# Altium schematic symbol library WCAP-ATG8.SchLib: 195 symbols (part 2 of 4)
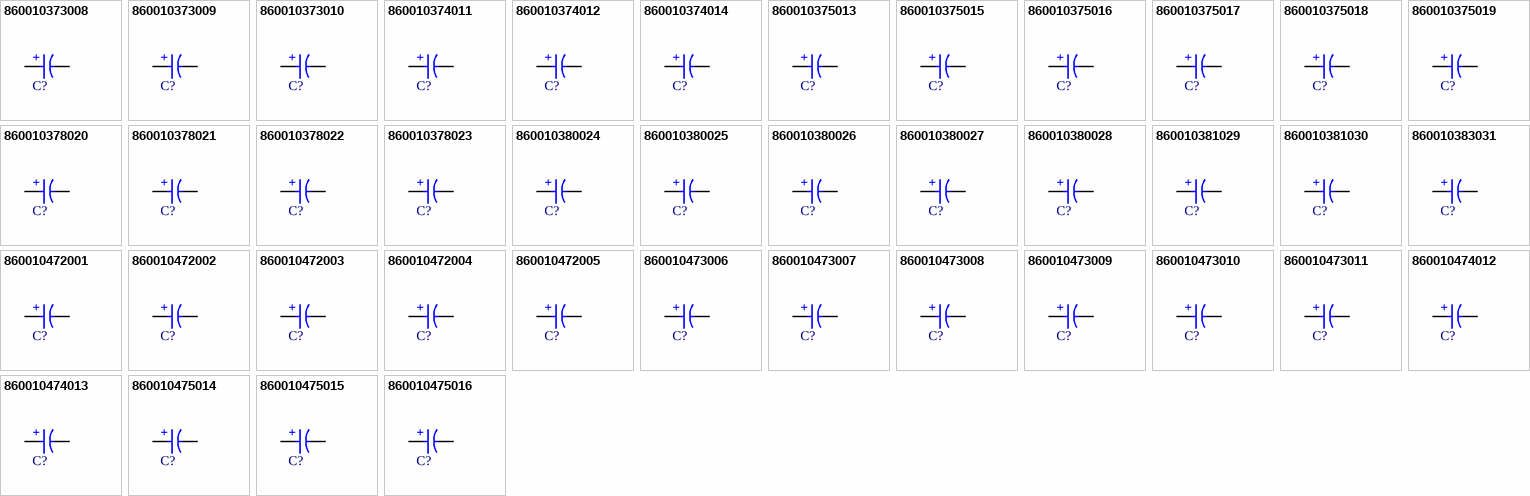
[diagram p5: symbols 860010373008 to 860010475016]

## 860010375019
designator C?, comment 1500uF  (value not drawn)
WCAP-ATG8 Aluminum Electrolytic Capacitor, Radial, THT, D10 x H20mm, 1500uF, 16V; Manufacturer Part Number: 860010375019; Manufacturer: Wurth Elektronik; Capacitance Tolerance: +/-20%; Dissipation Factor: 16%; Endurance: 2000h; Leakage Current: 240uA; Ripple Current: 1100mA; Technical Reference: ATBF200152M016DSPAAB000; Category: Aluminum Electrolytic Capacitors; Match Code: WCAP-ATG8; ComponentLink1Description: Website Link; ComponentLink1URL: https://www.we-online.com/redexpert/article/860010375019?ad; ComponentLink2Description: Datasheet Link; ComponentLink2URL: https://www.we-online.com/redexpert/spec/860010375019?ad; Mount: Through Hole; Operating Temperature Max: 85°C; Operating Temperature Min: -40°C; Packaging: Ammo Pack; Height: 20mm; Diameter: 10mm; Capacitance: 1500uF; Rated Voltage (DC): 16V
footprint WCAP-ATG8_D10H20
simulation model 860010375019_1.5mF
pins: 1 P, 2 N
text: +

## 860010378020
designator C?, comment 1800uF  (value not drawn)
WCAP-ATG8 Aluminum Electrolytic Capacitor, Radial, THT, D13 x H20mm, 1800uF, 16V; Manufacturer Part Number: 860010378020; Manufacturer: Wurth Elektronik; Capacitance Tolerance: +/-20%; Dissipation Factor: 16%; Endurance: 2000h; Leakage Current: 288uA; Ripple Current: 1298mA; Technical Reference: ATBI200182M016DSPACB000; Category: Aluminum Electrolytic Capacitors; Match Code: WCAP-ATG8; ComponentLink1Description: Website Link; ComponentLink1URL: https://www.we-online.com/redexpert/article/860010378020?ad; ComponentLink2Description: Datasheet Link; ComponentLink2URL: https://www.we-online.com/redexpert/spec/860010378020?ad; Mount: Through Hole; Operating Temperature Max: 85°C; Operating Temperature Min: -40°C; Packaging: Ammo Pack; Height: 20mm; Diameter: 13mm; Capacitance: 1800uF; Rated Voltage (DC): 16V
footprint WCAP-ATG8_D13H20
simulation model 860010378020_1.8mF
pins: 1 P, 2 N
text: +

## 860010378021
designator C?, comment 2200uF  (value not drawn)
WCAP-ATG8 Aluminum Electrolytic Capacitor, Radial, THT, D13 x H20mm, 2200uF, 16V; Manufacturer Part Number: 860010378021; Manufacturer: Wurth Elektronik; Capacitance Tolerance: +/-20%; Dissipation Factor: 16%; Endurance: 2000h; Leakage Current: 352uA; Ripple Current: 1485mA; Technical Reference: ATBI200222M016DSPACB000; Category: Aluminum Electrolytic Capacitors; Match Code: WCAP-ATG8; ComponentLink1Description: Website Link; ComponentLink1URL: https://www.we-online.com/redexpert/article/860010378021?ad; ComponentLink2Description: Datasheet Link; ComponentLink2URL: https://www.we-online.com/redexpert/spec/860010378021?ad; Mount: Through Hole; Operating Temperature Max: 85°C; Operating Temperature Min: -40°C; Packaging: Ammo Pack; Height: 20mm; Diameter: 13mm; Capacitance: 2200uF; Rated Voltage (DC): 16V
footprint WCAP-ATG8_D13H20
simulation model 860010378021_2.2mF
pins: 1 P, 2 N
text: +

## 860010378022
designator C?, comment 2700uF  (value not drawn)
WCAP-ATG8 Aluminum Electrolytic Capacitor, Radial, THT, D13 x H20mm, 2700uF, 16V; Manufacturer Part Number: 860010378022; Manufacturer: Wurth Elektronik; Capacitance Tolerance: +/-20%; Dissipation Factor: 16%; Endurance: 2000h; Leakage Current: 432uA; Ripple Current: 1716mA; Technical Reference: ATBI200272M016DSPACB000; Category: Aluminum Electrolytic Capacitors; Match Code: WCAP-ATG8; ComponentLink1Description: Website Link; ComponentLink1URL: https://www.we-online.com/redexpert/article/860010378022?ad; ComponentLink2Description: Datasheet Link; ComponentLink2URL: https://www.we-online.com/redexpert/spec/860010378022?ad; Mount: Through Hole; Operating Temperature Max: 85°C; Operating Temperature Min: -40°C; Packaging: Ammo Pack; Height: 20mm; Diameter: 13mm; Capacitance: 2700uF; Rated Voltage (DC): 16V
footprint WCAP-ATG8_D13H20
simulation model 860010378022_2.7mF
pins: 1 P, 2 N
text: +

## 860010378023
designator C?, comment 3300uF  (value not drawn)
WCAP-ATG8 Aluminum Electrolytic Capacitor, Radial, THT, D13 x H20mm, 3300uF, 16V; Manufacturer Part Number: 860010378023; Manufacturer: Wurth Elektronik; Capacitance Tolerance: +/-20%; Dissipation Factor: 16%; Endurance: 2000h; Leakage Current: 528uA; Ripple Current: 1750mA; Technical Reference: ATBI200332M016DSPACB000; Category: Aluminum Electrolytic Capacitors; Match Code: WCAP-ATG8; ComponentLink1Description: Website Link; ComponentLink1URL: https://www.we-online.com/redexpert/article/860010378023?ad; ComponentLink2Description: Datasheet Link; ComponentLink2URL: https://www.we-online.com/redexpert/spec/860010378023?ad; Mount: Through Hole; Operating Temperature Max: 85°C; Operating Temperature Min: -40°C; Packaging: Ammo Pack; Height: 20mm; Diameter: 13mm; Capacitance: 3300uF; Rated Voltage (DC): 16V
footprint WCAP-ATG8_D13H20
simulation model 860010378023_3.3mF
pins: 1 P, 2 N
text: +

## 860010380024
designator C?, comment 3900uF  (value not drawn)
WCAP-ATG8 Aluminum Electrolytic Capacitor, Radial, THT, D16 x H25mm, 3900uF, 16V; Manufacturer Part Number: 860010380024; Manufacturer: Wurth Elektronik; Capacitance Tolerance: +/-20%; Dissipation Factor: 16%; Endurance: 2000h; Leakage Current: 624uA; Ripple Current: 2002mA; Technical Reference: ATBK250392M016DSPAEB000; Category: Aluminum Electrolytic Capacitors; Match Code: WCAP-ATG8; ComponentLink1Description: Website Link; ComponentLink1URL: https://www.we-online.com/redexpert/article/860010380024?ad; ComponentLink2Description: Datasheet Link; ComponentLink2URL: https://www.we-online.com/redexpert/spec/860010380024?ad; Mount: Through Hole; Operating Temperature Max: 85°C; Operating Temperature Min: -40°C; Packaging: Ammo Pack; Height: 25mm; Diameter: 16mm; Capacitance: 3900uF; Rated Voltage (DC): 16V
footprint WCAP-ATG8_D16H25
simulation model 860010380024_3.9mF
pins: 1 P, 2 N
text: +

## 860010380025
designator C?, comment 4700uF  (value not drawn)
WCAP-ATG8 Aluminum Electrolytic Capacitor, Radial, THT, D16 x H25mm, 4700uF, 16V; Manufacturer Part Number: 860010380025; Manufacturer: Wurth Elektronik; Capacitance Tolerance: +/-20%; Dissipation Factor: 16%; Endurance: 2000h; Leakage Current: 752uA; Ripple Current: 2310mA; Technical Reference: ATBK250472M016DSPAEB000; Category: Aluminum Electrolytic Capacitors; Match Code: WCAP-ATG8; ComponentLink1Description: Website Link; ComponentLink1URL: https://www.we-online.com/redexpert/article/860010380025?ad; ComponentLink2Description: Datasheet Link; ComponentLink2URL: https://www.we-online.com/redexpert/spec/860010380025?ad; Mount: Through Hole; Operating Temperature Max: 85°C; Operating Temperature Min: -40°C; Packaging: Ammo Pack; Height: 25mm; Diameter: 16mm; Capacitance: 4700uF; Rated Voltage (DC): 16V
footprint WCAP-ATG8_D16H25
simulation model 860010380025_4.7mF
pins: 1 P, 2 N
text: +

## 860010380026
designator C?, comment 5600uF  (value not drawn)
WCAP-ATG8 Aluminum Electrolytic Capacitor, Radial, THT, D16 x H31.5mm, 5600uF, 16V; Manufacturer Part Number: 860010380026; Manufacturer: Wurth Elektronik; Capacitance Tolerance: +/-20%; Dissipation Factor: 16%; Endurance: 2000h; Leakage Current: 896uA; Ripple Current: 2453mA; Technical Reference: ATBK315562M016DSPADB000; Category: Aluminum Electrolytic Capacitors; Match Code: WCAP-ATG8; ComponentLink1Description: Website Link; ComponentLink1URL: https://www.we-online.com/redexpert/article/860010380026?ad; ComponentLink2Description: Datasheet Link; ComponentLink2URL: https://www.we-online.com/redexpert/spec/860010380026?ad; Mount: Through Hole; Operating Temperature Max: 85°C; Operating Temperature Min: -40°C; Packaging: Ammo Pack; Height: 31.5mm; Diameter: 16mm; Capacitance: 5600uF; Rated Voltage (DC): 16V
footprint WCAP-ATG8_D16H31.5
simulation model 860010380026_5.6mF
pins: 1 P, 2 N
text: +

## 860010380027
designator C?, comment 6800uF  (value not drawn)
WCAP-ATG8 Aluminum Electrolytic Capacitor, Radial, THT, D16 x H31.5mm, 6800uF, 16V; Manufacturer Part Number: 860010380027; Manufacturer: Wurth Elektronik; Capacitance Tolerance: +/-20%; Dissipation Factor: 16%; Endurance: 2000h; Leakage Current: 1088uA; Ripple Current: 2805mA; Technical Reference: ATBK315682M016DSPADB000; Category: Aluminum Electrolytic Capacitors; Match Code: WCAP-ATG8; ComponentLink1Description: Website Link; ComponentLink1URL: https://www.we-online.com/redexpert/article/860010380027?ad; ComponentLink2Description: Datasheet Link; ComponentLink2URL: https://www.we-online.com/redexpert/spec/860010380027?ad; Mount: Through Hole; Operating Temperature Max: 85°C; Operating Temperature Min: -40°C; Packaging: Ammo Pack; Height: 31.5mm; Diameter: 16mm; Capacitance: 6800uF; Rated Voltage (DC): 16V
footprint WCAP-ATG8_D16H31.5
simulation model 860010380027_6.8mF
pins: 1 P, 2 N
text: +

## 860010380028
designator C?, comment 8200uF  (value not drawn)
WCAP-ATG8 Aluminum Electrolytic Capacitor, Radial, THT, D16 x H35.5mm, 8200uF, 16V; Manufacturer Part Number: 860010380028; Manufacturer: Wurth Elektronik; Capacitance Tolerance: +/-20%; Dissipation Factor: 16%; Endurance: 2000h; Leakage Current: 1312uA; Ripple Current: 2893mA; Technical Reference: ATBK355822M016DSPADB000; Category: Aluminum Electrolytic Capacitors; Match Code: WCAP-ATG8; ComponentLink1Description: Website Link; ComponentLink1URL: https://www.we-online.com/redexpert/article/860010380028?ad; ComponentLink2Description: Datasheet Link; ComponentLink2URL: https://www.we-online.com/redexpert/spec/860010380028?ad; Mount: Through Hole; Operating Temperature Max: 85°C; Operating Temperature Min: -40°C; Packaging: Ammo Pack; Height: 35.5mm; Diameter: 16mm; Capacitance: 8200uF; Rated Voltage (DC): 16V
footprint WCAP-ATG8_D16H35.5
simulation model 860010380028_8.2mF
pins: 1 P, 2 N
text: +

## 860010381029
designator C?, comment 10000uF  (value not drawn)
WCAP-ATG8 Aluminum Electrolytic Capacitor, Radial, THT, D18 x H35.5mm, 10000uF, 16V; Manufacturer Part Number: 860010381029; Manufacturer: Wurth Elektronik; Capacitance Tolerance: +/-20%; Dissipation Factor: 16%; Endurance: 2000h; Leakage Current: 1600uA; Ripple Current: 2970mA; Technical Reference: ATBL355103M016DSPAEB000; Category: Aluminum Electrolytic Capacitors; Match Code: WCAP-ATG8; ComponentLink1Description: Website Link; ComponentLink1URL: https://www.we-online.com/redexpert/article/860010381029?ad; ComponentLink2Description: Datasheet Link; ComponentLink2URL: https://www.we-online.com/redexpert/spec/860010381029?ad; Mount: Through Hole; Operating Temperature Max: 85°C; Operating Temperature Min: -40°C; Packaging: Ammo Pack; Height: 35.5mm; Diameter: 18mm; Capacitance: 10000uF; Rated Voltage (DC): 16V
footprint WCAP-ATG8_D18H35.5
simulation model 860010381029_10mF
pins: 1 P, 2 N
text: +

## 860010381030
designator C?, comment 12000uF  (value not drawn)
WCAP-ATG8 Aluminum Electrolytic Capacitor, Radial, THT, D18 x H35.5mm, 12000uF, 16V; Manufacturer Part Number: 860010381030; Manufacturer: Wurth Elektronik; Capacitance Tolerance: +/-20%; Dissipation Factor: 16%; Endurance: 2000h; Leakage Current: 1920uA; Ripple Current: 3058mA; Technical Reference: ATBL355123M016DSPAEB000; Category: Aluminum Electrolytic Capacitors; Match Code: WCAP-ATG8; ComponentLink1Description: Website Link; ComponentLink1URL: https://www.we-online.com/redexpert/article/860010381030?ad; ComponentLink2Description: Datasheet Link; ComponentLink2URL: https://www.we-online.com/redexpert/spec/860010381030?ad; Mount: Through Hole; Operating Temperature Max: 85°C; Operating Temperature Min: -40°C; Packaging: Ammo Pack; Height: 35.5mm; Diameter: 18mm; Capacitance: 12000uF; Rated Voltage (DC): 16V
footprint WCAP-ATG8_D18H35.5
simulation model 860010381030_12mF
pins: 1 P, 2 N
text: +

## 860010383031
designator C?, comment 15000uF  (value not drawn)
WCAP-ATG8 Aluminum Electrolytic Capacitor, Radial, THT, D22 x H41mm, 15000uF, 16V; Manufacturer Part Number: 860010383031; Manufacturer: Wurth Elektronik; Capacitance Tolerance: +/-20%; Dissipation Factor: 16%; Endurance: 2000h; Leakage Current: 2400uA; Ripple Current: 3905mA; Technical Reference: ATBN410153M016DSPS2B000; Category: Aluminum Electrolytic Capacitors; Match Code: WCAP-ATG8; ComponentLink1Description: Website Link; ComponentLink1URL: https://www.we-online.com/redexpert/article/860010383031?ad; ComponentLink2Description: Datasheet Link; ComponentLink2URL: https://www.we-online.com/redexpert/spec/860010383031?ad; Mount: Through Hole; Operating Temperature Max: 85°C; Operating Temperature Min: -40°C; Packaging: Ammo Pack; Height: 41mm; Diameter: 22mm; Capacitance: 15000uF; Rated Voltage (DC): 16V
footprint WCAP-ATG8_D22H41
simulation model 860010383031_15mF
pins: 1 P, 2 N
text: +

## 860010472001
designator C?, comment 4.7uF  (value not drawn)
WCAP-ATG8 Aluminum Electrolytic Capacitor, Radial, THT, D5 x H11mm, 4.7uF, 25V; Manufacturer Part Number: 860010472001; Manufacturer: Wurth Elektronik; Capacitance Tolerance: +/-20%; Dissipation Factor: 14%; Endurance: 2000h; Leakage Current: 3uA; Ripple Current: 34mA; Technical Reference: ATBC1104R7M025DSPA3B000; Category: Aluminum Electrolytic Capacitors; Match Code: WCAP-ATG8; ComponentLink1Description: Website Link; ComponentLink1URL: https://www.we-online.com/redexpert/article/860010472001?ad; ComponentLink2Description: Datasheet Link; ComponentLink2URL: https://www.we-online.com/redexpert/spec/860010472001?ad; Mount: Through Hole; Operating Temperature Max: 85°C; Operating Temperature Min: -40°C; Packaging: Ammo Pack; Height: 11mm; Diameter: 5mm; Capacitance: 4.7uF; Rated Voltage (DC): 25V
footprint WCAP-ATG8_D5H11
simulation model 860010472001_4.7uF
pins: 1 P, 2 N
text: +

## 860010472002
designator C?, comment 10uF  (value not drawn)
WCAP-ATG8 Aluminum Electrolytic Capacitor, Radial, THT, D5 x H11mm, 10uF, 25V; Manufacturer Part Number: 860010472002; Manufacturer: Wurth Elektronik; Capacitance Tolerance: +/-20%; Dissipation Factor: 14%; Endurance: 2000h; Leakage Current: 3uA; Ripple Current: 50mA; Technical Reference: ATBC110100M025DSPA3B000; Category: Aluminum Electrolytic Capacitors; Match Code: WCAP-ATG8; ComponentLink1Description: Website Link; ComponentLink1URL: https://www.we-online.com/redexpert/article/860010472002?ad; ComponentLink2Description: Datasheet Link; ComponentLink2URL: https://www.we-online.com/redexpert/spec/860010472002?ad; Mount: Through Hole; Operating Temperature Max: 85°C; Operating Temperature Min: -40°C; Packaging: Ammo Pack; Height: 11mm; Diameter: 5mm; Capacitance: 10uF; Rated Voltage (DC): 25V
footprint WCAP-ATG8_D5H11
simulation model 860010472002_10uF
pins: 1 P, 2 N
text: +

## 860010472003
designator C?, comment 22uF  (value not drawn)
WCAP-ATG8 Aluminum Electrolytic Capacitor, Radial, THT, D5 x H11mm, 22uF, 25V; Manufacturer Part Number: 860010472003; Manufacturer: Wurth Elektronik; Capacitance Tolerance: +/-20%; Dissipation Factor: 14%; Endurance: 2000h; Leakage Current: 5.5uA; Ripple Current: 94mA; Technical Reference: ATBC110220M025DSPA3B000; Category: Aluminum Electrolytic Capacitors; Match Code: WCAP-ATG8; ComponentLink1Description: Website Link; ComponentLink1URL: https://www.we-online.com/redexpert/article/860010472003?ad; ComponentLink2Description: Datasheet Link; ComponentLink2URL: https://www.we-online.com/redexpert/spec/860010472003?ad; Mount: Through Hole; Operating Temperature Max: 85°C; Operating Temperature Min: -40°C; Packaging: Ammo Pack; Height: 11mm; Diameter: 5mm; Capacitance: 22uF; Rated Voltage (DC): 25V
footprint WCAP-ATG8_D5H11
simulation model 860010472003_22uF
pins: 1 P, 2 N
text: +

## 860010472004
designator C?, comment 33uF  (value not drawn)
WCAP-ATG8 Aluminum Electrolytic Capacitor, Radial, THT, D5 x H11mm, 33uF, 25V; Manufacturer Part Number: 860010472004; Manufacturer: Wurth Elektronik; Capacitance Tolerance: +/-20%; Dissipation Factor: 14%; Endurance: 2000h; Leakage Current: 8.25uA; Ripple Current: 105mA; Technical Reference: ATBC110330M025DSPA3B000; Category: Aluminum Electrolytic Capacitors; Match Code: WCAP-ATG8; ComponentLink1Description: Website Link; ComponentLink1URL: https://www.we-online.com/redexpert/article/860010472004?ad; ComponentLink2Description: Datasheet Link; ComponentLink2URL: https://www.we-online.com/redexpert/spec/860010472004?ad; Mount: Through Hole; Operating Temperature Max: 85°C; Operating Temperature Min: -40°C; Packaging: Ammo Pack; Height: 11mm; Diameter: 5mm; Capacitance: 33uF; Rated Voltage (DC): 25V
footprint WCAP-ATG8_D5H11
simulation model 860010472004_33uF
pins: 1 P, 2 N
text: +

## 860010472005
designator C?, comment 47uF  (value not drawn)
WCAP-ATG8 Aluminum Electrolytic Capacitor, Radial, THT, D5 x H11mm, 47uF, 25V; Manufacturer Part Number: 860010472005; Manufacturer: Wurth Elektronik; Capacitance Tolerance: +/-20%; Dissipation Factor: 14%; Endurance: 2000h; Leakage Current: 11.75uA; Ripple Current: 132mA; Technical Reference: ATBC110470M025DSPA3B000; Category: Aluminum Electrolytic Capacitors; Match Code: WCAP-ATG8; ComponentLink1Description: Website Link; ComponentLink1URL: https://www.we-online.com/redexpert/article/860010472005?ad; ComponentLink2Description: Datasheet Link; ComponentLink2URL: https://www.we-online.com/redexpert/spec/860010472005?ad; Mount: Through Hole; Operating Temperature Max: 85°C; Operating Temperature Min: -40°C; Packaging: Ammo Pack; Height: 11mm; Diameter: 5mm; Capacitance: 47uF; Rated Voltage (DC): 25V
footprint WCAP-ATG8_D5H11
simulation model 860010472005_47uF
pins: 1 P, 2 N
text: +

## 860010473006
designator C?, comment 68uF  (value not drawn)
WCAP-ATG8 Aluminum Electrolytic Capacitor, Radial, THT, D6.3 x H11mm, 68uF, 25V; Manufacturer Part Number: 860010473006; Manufacturer: Wurth Elektronik; Capacitance Tolerance: +/-20%; Dissipation Factor: 14%; Endurance: 2000h; Leakage Current: 17uA; Ripple Current: 176mA; Technical Reference: ATBD110680M025DSPA4B000; Category: Aluminum Electrolytic Capacitors; Match Code: WCAP-ATG8; ComponentLink1Description: Website Link; ComponentLink1URL: https://www.we-online.com/redexpert/article/860010473006?ad; ComponentLink2Description: Datasheet Link; ComponentLink2URL: https://www.we-online.com/redexpert/spec/860010473006?ad; Mount: Through Hole; Operating Temperature Max: 85°C; Operating Temperature Min: -40°C; Packaging: Ammo Pack; Height: 11mm; Diameter: 6.3mm; Capacitance: 68uF; Rated Voltage (DC): 25V
footprint WCAP-ATG8_D6.3H11
simulation model 860010473006_68uF
pins: 1 P, 2 N
text: +

## 860010473007
designator C?, comment 100uF  (value not drawn)
WCAP-ATG8 Aluminum Electrolytic Capacitor, Radial, THT, D6.3 x H11mm, 100uF, 25V; Manufacturer Part Number: 860010473007; Manufacturer: Wurth Elektronik; Capacitance Tolerance: +/-20%; Dissipation Factor: 14%; Endurance: 2000h; Leakage Current: 25uA; Ripple Current: 209mA; Technical Reference: ATBD110101M025DSPA4B000; Category: Aluminum Electrolytic Capacitors; Match Code: WCAP-ATG8; ComponentLink1Description: Website Link; ComponentLink1URL: https://www.we-online.com/redexpert/article/860010473007?ad; ComponentLink2Description: Datasheet Link; ComponentLink2URL: https://www.we-online.com/redexpert/spec/860010473007?ad; Mount: Through Hole; Operating Temperature Max: 85°C; Operating Temperature Min: -40°C; Packaging: Ammo Pack; Height: 11mm; Diameter: 6.3mm; Capacitance: 100uF; Rated Voltage (DC): 25V
footprint WCAP-ATG8_D6.3H11
simulation model 860010473007_100uF
pins: 1 P, 2 N
text: +

## 860010473008
designator C?, comment 120uF  (value not drawn)
WCAP-ATG8 Aluminum Electrolytic Capacitor, Radial, THT, D6.3 x H11mm, 120uF, 25V; Manufacturer Part Number: 860010473008; Manufacturer: Wurth Elektronik; Capacitance Tolerance: +/-20%; Dissipation Factor: 14%; Endurance: 2000h; Leakage Current: 30uA; Ripple Current: 253mA; Technical Reference: ATBD110121M025DSPA4B000; Category: Aluminum Electrolytic Capacitors; Match Code: WCAP-ATG8; ComponentLink1Description: Website Link; ComponentLink1URL: https://www.we-online.com/redexpert/article/860010473008?ad; ComponentLink2Description: Datasheet Link; ComponentLink2URL: https://www.we-online.com/redexpert/spec/860010473008?ad; Mount: Through Hole; Operating Temperature Max: 85°C; Operating Temperature Min: -40°C; Packaging: Ammo Pack; Height: 11mm; Diameter: 6.3mm; Capacitance: 120uF; Rated Voltage (DC): 25V
footprint WCAP-ATG8_D6.3H11
simulation model 860010473008_120uF
pins: 1 P, 2 N
text: +

## 860010473009
designator C?, comment 150uF  (value not drawn)
WCAP-ATG8 Aluminum Electrolytic Capacitor, Radial, THT, D6.3 x H11mm, 150uF, 25V; Manufacturer Part Number: 860010473009; Manufacturer: Wurth Elektronik; Capacitance Tolerance: +/-20%; Dissipation Factor: 14%; Endurance: 2000h; Leakage Current: 37.5uA; Ripple Current: 275mA; Technical Reference: ATBD110151M025DSPA4B000; Category: Aluminum Electrolytic Capacitors; Match Code: WCAP-ATG8; ComponentLink1Description: Website Link; ComponentLink1URL: https://www.we-online.com/redexpert/article/860010473009?ad; ComponentLink2Description: Datasheet Link; ComponentLink2URL: https://www.we-online.com/redexpert/spec/860010473009?ad; Mount: Through Hole; Operating Temperature Max: 85°C; Operating Temperature Min: -40°C; Packaging: Ammo Pack; Height: 11mm; Diameter: 6.3mm; Capacitance: 150uF; Rated Voltage (DC): 25V
footprint WCAP-ATG8_D6.3H11
simulation model 860010473009_150uF
pins: 1 P, 2 N
text: +

## 860010473010
designator C?, comment 180uF  (value not drawn)
WCAP-ATG8 Aluminum Electrolytic Capacitor, Radial, THT, D6.3 x H11mm, 180uF, 25V; Manufacturer Part Number: 860010473010; Manufacturer: Wurth Elektronik; Capacitance Tolerance: +/-20%; Dissipation Factor: 14%; Endurance: 2000h; Leakage Current: 45uA; Ripple Current: 280mA; Technical Reference: ATBD110181M025DSPA4B000; Category: Aluminum Electrolytic Capacitors; Match Code: WCAP-ATG8; ComponentLink1Description: Website Link; ComponentLink1URL: https://www.we-online.com/redexpert/article/860010473010?ad; ComponentLink2Description: Datasheet Link; ComponentLink2URL: https://www.we-online.com/redexpert/spec/860010473010?ad; Mount: Through Hole; Operating Temperature Max: 85°C; Operating Temperature Min: -40°C; Packaging: Ammo Pack; Height: 11mm; Diameter: 6.3mm; Capacitance: 180uF; Rated Voltage (DC): 25V
footprint WCAP-ATG8_D6.3H11
simulation model 860010473010_180uF
pins: 1 P, 2 N
text: +

## 860010473011
designator C?, comment 220uF  (value not drawn)
WCAP-ATG8 Aluminum Electrolytic Capacitor, Radial, THT, D6.3 x H11mm, 220uF, 25V; Manufacturer Part Number: 860010473011; Manufacturer: Wurth Elektronik; Capacitance Tolerance: +/-20%; Dissipation Factor: 14%; Endurance: 2000h; Leakage Current: 55uA; Ripple Current: 310mA; Technical Reference: ATBD110221M025DSPA4B000; Category: Aluminum Electrolytic Capacitors; Match Code: WCAP-ATG8; ComponentLink1Description: Website Link; ComponentLink1URL: https://www.we-online.com/redexpert/article/860010473011?ad; ComponentLink2Description: Datasheet Link; ComponentLink2URL: https://www.we-online.com/redexpert/spec/860010473011?ad; Mount: Through Hole; Operating Temperature Max: 85°C; Operating Temperature Min: -40°C; Packaging: Ammo Pack; Height: 11mm; Diameter: 6.3mm; Capacitance: 220uF; Rated Voltage (DC): 25V
footprint WCAP-ATG8_D6.3H11
simulation model 860010473011_220uF
pins: 1 P, 2 N
text: +

## 860010474012
designator C?, comment 330uF  (value not drawn)
WCAP-ATG8 Aluminum Electrolytic Capacitor, Radial, THT, D8 x H11.5mm, 330uF, 25V; Manufacturer Part Number: 860010474012; Manufacturer: Wurth Elektronik; Capacitance Tolerance: +/-20%; Dissipation Factor: 14%; Endurance: 2000h; Leakage Current: 82.5uA; Ripple Current: 451mA; Technical Reference: ATBE115331M025DSPA7B000; Category: Aluminum Electrolytic Capacitors; Match Code: WCAP-ATG8; ComponentLink1Description: Website Link; ComponentLink1URL: https://www.we-online.com/redexpert/article/860010474012?ad; ComponentLink2Description: Datasheet Link; ComponentLink2URL: https://www.we-online.com/redexpert/spec/860010474012?ad; Mount: Through Hole; Operating Temperature Max: 85°C; Operating Temperature Min: -40°C; Packaging: Ammo Pack; Height: 11.5mm; Diameter: 8mm; Capacitance: 330uF; Rated Voltage (DC): 25V
footprint WCAP-ATG8_D8H11.5
simulation model 860010474012_330uF
pins: 1 P, 2 N
text: +

## 860010474013
designator C?, comment 470uF  (value not drawn)
WCAP-ATG8 Aluminum Electrolytic Capacitor, Radial, THT, D8 x H11.5mm, 470uF, 25V; Manufacturer Part Number: 860010474013; Manufacturer: Wurth Elektronik; Capacitance Tolerance: +/-20%; Dissipation Factor: 14%; Endurance: 2000h; Leakage Current: 117.5uA; Ripple Current: 561mA; Technical Reference: ATBE115471M025DSPA7B000; Category: Aluminum Electrolytic Capacitors; Match Code: WCAP-ATG8; ComponentLink1Description: Website Link; ComponentLink1URL: https://www.we-online.com/redexpert/article/860010474013?ad; ComponentLink2Description: Datasheet Link; ComponentLink2URL: https://www.we-online.com/redexpert/spec/860010474013?ad; Mount: Through Hole; Operating Temperature Max: 85°C; Operating Temperature Min: -40°C; Packaging: Ammo Pack; Height: 11.5mm; Diameter: 8mm; Capacitance: 470uF; Rated Voltage (DC): 25V
footprint WCAP-ATG8_D8H11.5
simulation model 860010474013_470uF
pins: 1 P, 2 N
text: +

## 860010475014
designator C?, comment 560uF  (value not drawn)
WCAP-ATG8 Aluminum Electrolytic Capacitor, Radial, THT, D10 x H16mm, 560uF, 25V; Manufacturer Part Number: 860010475014; Manufacturer: Wurth Elektronik; Capacitance Tolerance: +/-20%; Dissipation Factor: 14%; Endurance: 2000h; Leakage Current: 140uA; Ripple Current: 693mA; Technical Reference: ATBF160561M025DSPAAB000; Category: Aluminum Electrolytic Capacitors; Match Code: WCAP-ATG8; ComponentLink1Description: Website Link; ComponentLink1URL: https://www.we-online.com/redexpert/article/860010475014?ad; ComponentLink2Description: Datasheet Link; ComponentLink2URL: https://www.we-online.com/redexpert/spec/860010475014?ad; Mount: Through Hole; Operating Temperature Max: 85°C; Operating Temperature Min: -40°C; Packaging: Ammo Pack; Height: 16mm; Diameter: 10mm; Capacitance: 560uF; Rated Voltage (DC): 25V
footprint WCAP-ATG8_D10H16
simulation model 860010475014_560uF
pins: 1 P, 2 N
text: +

## 860010475015
designator C?, comment 680uF  (value not drawn)
WCAP-ATG8 Aluminum Electrolytic Capacitor, Radial, THT, D10 x H16mm, 680uF, 25V; Manufacturer Part Number: 860010475015; Manufacturer: Wurth Elektronik; Capacitance Tolerance: +/-20%; Dissipation Factor: 14%; Endurance: 2000h; Leakage Current: 170uA; Ripple Current: 792mA; Technical Reference: ATBF160681M025DSPAAB000; Category: Aluminum Electrolytic Capacitors; Match Code: WCAP-ATG8; ComponentLink1Description: Website Link; ComponentLink1URL: https://www.we-online.com/redexpert/article/860010475015?ad; ComponentLink2Description: Datasheet Link; ComponentLink2URL: https://www.we-online.com/redexpert/spec/860010475015?ad; Mount: Through Hole; Operating Temperature Max: 85°C; Operating Temperature Min: -40°C; Packaging: Ammo Pack; Height: 16mm; Diameter: 10mm; Capacitance: 680uF; Rated Voltage (DC): 25V
footprint WCAP-ATG8_D10H16
simulation model 860010475015_680uF
pins: 1 P, 2 N
text: +

## 860010475016
designator C?, comment 820uF  (value not drawn)
WCAP-ATG8 Aluminum Electrolytic Capacitor, Radial, THT, D10 x H20mm, 820uF, 25V; Manufacturer Part Number: 860010475016; Manufacturer: Wurth Elektronik; Capacitance Tolerance: +/-20%; Dissipation Factor: 14%; Endurance: 2000h; Leakage Current: 205uA; Ripple Current: 891mA; Technical Reference: ATBF200821M025DSPAAB000; Category: Aluminum Electrolytic Capacitors; Match Code: WCAP-ATG8; ComponentLink1Description: Website Link; ComponentLink1URL: https://www.we-online.com/redexpert/article/860010475016?ad; ComponentLink2Description: Datasheet Link; ComponentLink2URL: https://www.we-online.com/redexpert/spec/860010475016?ad; Mount: Through Hole; Operating Temperature Max: 85°C; Operating Temperature Min: -40°C; Packaging: Ammo Pack; Height: 20mm; Diameter: 10mm; Capacitance: 820uF; Rated Voltage (DC): 25V
footprint WCAP-ATG8_D10H20
simulation model 860010475016_820uF
pins: 1 P, 2 N
text: +

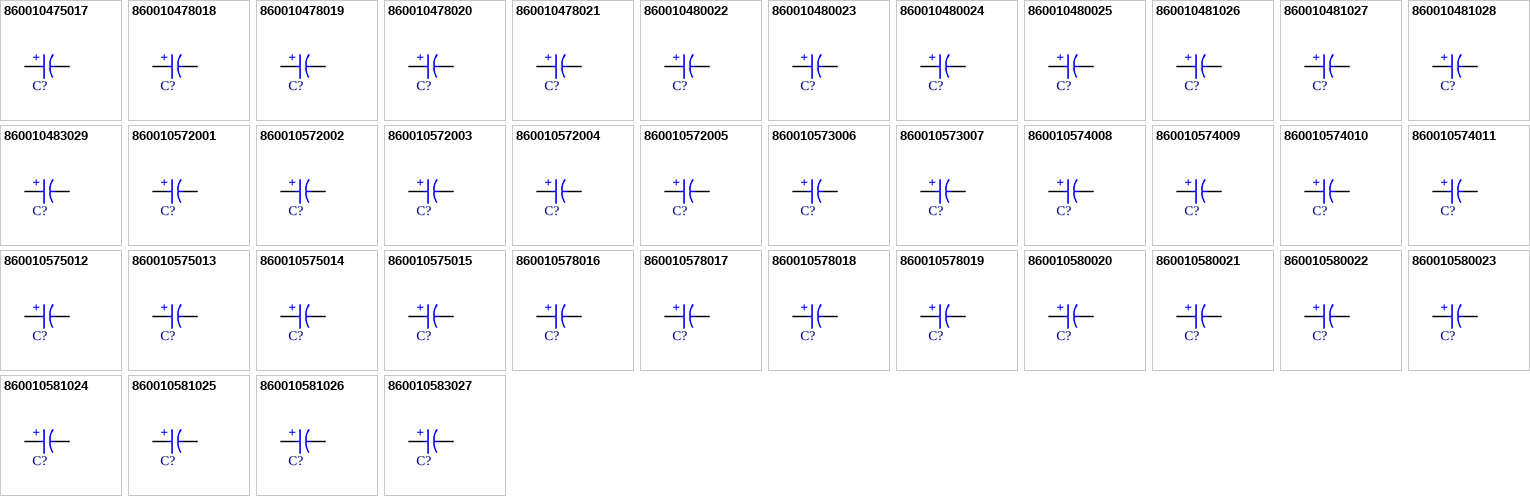
[diagram p2: symbols 860010475017 to 860010583027]

## 860010475017
designator C?, comment 1000uF  (value not drawn)
WCAP-ATG8 Aluminum Electrolytic Capacitor, Radial, THT, D10 x H20mm, 1000uF, 25V; Manufacturer Part Number: 860010475017; Manufacturer: Wurth Elektronik; Capacitance Tolerance: +/-20%; Dissipation Factor: 14%; Endurance: 2000h; Leakage Current: 250uA; Ripple Current: 1050mA; Technical Reference: ATBF200102M025DSPAAB000; Category: Aluminum Electrolytic Capacitors; Match Code: WCAP-ATG8; ComponentLink1Description: Website Link; ComponentLink1URL: https://www.we-online.com/redexpert/article/860010475017?ad; ComponentLink2Description: Datasheet Link; ComponentLink2URL: https://www.we-online.com/redexpert/spec/860010475017?ad; Mount: Through Hole; Operating Temperature Max: 85°C; Operating Temperature Min: -40°C; Packaging: Ammo Pack; Height: 20mm; Diameter: 10mm; Capacitance: 1000uF; Rated Voltage (DC): 25V
footprint WCAP-ATG8_D10H20
simulation model 860010475017_1mF
pins: 1 P, 2 N
text: +

## 860010478018
designator C?, comment 1200uF  (value not drawn)
WCAP-ATG8 Aluminum Electrolytic Capacitor, Radial, THT, D13 x H20mm, 1200uF, 25V; Manufacturer Part Number: 860010478018; Manufacturer: Wurth Elektronik; Capacitance Tolerance: +/-20%; Dissipation Factor: 14%; Endurance: 2000h; Leakage Current: 300uA; Ripple Current: 1155mA; Technical Reference: ATBI200122M025DSPACB000; Category: Aluminum Electrolytic Capacitors; Match Code: WCAP-ATG8; ComponentLink1Description: Website Link; ComponentLink1URL: https://www.we-online.com/redexpert/article/860010478018?ad; ComponentLink2Description: Datasheet Link; ComponentLink2URL: https://www.we-online.com/redexpert/spec/860010478018?ad; Mount: Through Hole; Operating Temperature Max: 85°C; Operating Temperature Min: -40°C; Packaging: Ammo Pack; Height: 20mm; Diameter: 13mm; Capacitance: 1200uF; Rated Voltage (DC): 25V
footprint WCAP-ATG8_D13H20
simulation model 860010478018_1.2mF
pins: 1 P, 2 N
text: +

## 860010478019
designator C?, comment 1500uF  (value not drawn)
WCAP-ATG8 Aluminum Electrolytic Capacitor, Radial, THT, D13 x H20mm, 1500uF, 25V; Manufacturer Part Number: 860010478019; Manufacturer: Wurth Elektronik; Capacitance Tolerance: +/-20%; Dissipation Factor: 14%; Endurance: 2000h; Leakage Current: 375uA; Ripple Current: 1353mA; Technical Reference: ATBI200152M025DSPACB000; Category: Aluminum Electrolytic Capacitors; Match Code: WCAP-ATG8; ComponentLink1Description: Website Link; ComponentLink1URL: https://www.we-online.com/redexpert/article/860010478019?ad; ComponentLink2Description: Datasheet Link; ComponentLink2URL: https://www.we-online.com/redexpert/spec/860010478019?ad; Mount: Through Hole; Operating Temperature Max: 85°C; Operating Temperature Min: -40°C; Packaging: Ammo Pack; Height: 20mm; Diameter: 13mm; Capacitance: 1500uF; Rated Voltage (DC): 25V
footprint WCAP-ATG8_D13H20
simulation model 860010478019_1.5mF
pins: 1 P, 2 N
text: +

## 860010478020
designator C?, comment 1800uF  (value not drawn)
WCAP-ATG8 Aluminum Electrolytic Capacitor, Radial, THT, D13 x H20mm, 1800uF, 25V; Manufacturer Part Number: 860010478020; Manufacturer: Wurth Elektronik; Capacitance Tolerance: +/-20%; Dissipation Factor: 14%; Endurance: 2000h; Leakage Current: 450uA; Ripple Current: 1496mA; Technical Reference: ATBI200182M025DSPACB000; Category: Aluminum Electrolytic Capacitors; Match Code: WCAP-ATG8; ComponentLink1Description: Website Link; ComponentLink1URL: https://www.we-online.com/redexpert/article/860010478020?ad; ComponentLink2Description: Datasheet Link; ComponentLink2URL: https://www.we-online.com/redexpert/spec/860010478020?ad; Mount: Through Hole; Operating Temperature Max: 85°C; Operating Temperature Min: -40°C; Packaging: Ammo Pack; Height: 20mm; Diameter: 13mm; Capacitance: 1800uF; Rated Voltage (DC): 25V
footprint WCAP-ATG8_D13H20
simulation model 860010478020_1.8mF
pins: 1 P, 2 N
text: +

## 860010478021
designator C?, comment 2200uF  (value not drawn)
WCAP-ATG8 Aluminum Electrolytic Capacitor, Radial, THT, D13 x H25mm, 2200uF, 25V; Manufacturer Part Number: 860010478021; Manufacturer: Wurth Elektronik; Capacitance Tolerance: +/-20%; Dissipation Factor: 14%; Endurance: 2000h; Leakage Current: 550uA; Ripple Current: 1705mA; Technical Reference: ATBI250222M025DSPACB000; Category: Aluminum Electrolytic Capacitors; Match Code: WCAP-ATG8; ComponentLink1Description: Website Link; ComponentLink1URL: https://www.we-online.com/redexpert/article/860010478021?ad; ComponentLink2Description: Datasheet Link; ComponentLink2URL: https://www.we-online.com/redexpert/spec/860010478021?ad; Mount: Through Hole; Operating Temperature Max: 85°C; Operating Temperature Min: -40°C; Packaging: Ammo Pack; Height: 25mm; Diameter: 13mm; Capacitance: 2200uF; Rated Voltage (DC): 25V
footprint WCAP-ATG8_D13H25
simulation model 860010478021_2.2mF
pins: 1 P, 2 N
text: +

## 860010480022
designator C?, comment 2700uF  (value not drawn)
WCAP-ATG8 Aluminum Electrolytic Capacitor, Radial, THT, D16 x H25mm, 2700uF, 25V; Manufacturer Part Number: 860010480022; Manufacturer: Wurth Elektronik; Capacitance Tolerance: +/-20%; Dissipation Factor: 14%; Endurance: 2000h; Leakage Current: 675uA; Ripple Current: 1804mA; Technical Reference: ATBK250272M025DSPAEB000; Category: Aluminum Electrolytic Capacitors; Match Code: WCAP-ATG8; ComponentLink1Description: Website Link; ComponentLink1URL: https://www.we-online.com/redexpert/article/860010480022?ad; ComponentLink2Description: Datasheet Link; ComponentLink2URL: https://www.we-online.com/redexpert/spec/860010480022?ad; Mount: Through Hole; Operating Temperature Max: 85°C; Operating Temperature Min: -40°C; Packaging: Ammo Pack; Height: 25mm; Diameter: 16mm; Capacitance: 2700uF; Rated Voltage (DC): 25V
footprint WCAP-ATG8_D16H25
simulation model 860010480022_2.7mF
pins: 1 P, 2 N
text: +

## 860010480023
designator C?, comment 3300uF  (value not drawn)
WCAP-ATG8 Aluminum Electrolytic Capacitor, Radial, THT, D16 x H25mm, 3300uF, 25V; Manufacturer Part Number: 860010480023; Manufacturer: Wurth Elektronik; Capacitance Tolerance: +/-20%; Dissipation Factor: 14%; Endurance: 2000h; Leakage Current: 825uA; Ripple Current: 1870mA; Technical Reference: ATBK250332M025DSPAEB000; Category: Aluminum Electrolytic Capacitors; Match Code: WCAP-ATG8; ComponentLink1Description: Website Link; ComponentLink1URL: https://www.we-online.com/redexpert/article/860010480023?ad; ComponentLink2Description: Datasheet Link; ComponentLink2URL: https://www.we-online.com/redexpert/spec/860010480023?ad; Mount: Through Hole; Operating Temperature Max: 85°C; Operating Temperature Min: -40°C; Packaging: Ammo Pack; Height: 25mm; Diameter: 16mm; Capacitance: 3300uF; Rated Voltage (DC): 25V
footprint WCAP-ATG8_D16H25
simulation model 860010480023_3.3mF
pins: 1 P, 2 N
text: +

## 860010480024
designator C?, comment 3900uF  (value not drawn)
WCAP-ATG8 Aluminum Electrolytic Capacitor, Radial, THT, D16 x H31.5mm, 3900uF, 25V; Manufacturer Part Number: 860010480024; Manufacturer: Wurth Elektronik; Capacitance Tolerance: +/-20%; Dissipation Factor: 14%; Endurance: 2000h; Leakage Current: 975uA; Ripple Current: 2343mA; Technical Reference: ATBK315392M025DSPADB000; Category: Aluminum Electrolytic Capacitors; Match Code: WCAP-ATG8; ComponentLink1Description: Website Link; ComponentLink1URL: https://www.we-online.com/redexpert/article/860010480024?ad; ComponentLink2Description: Datasheet Link; ComponentLink2URL: https://www.we-online.com/redexpert/spec/860010480024?ad; Mount: Through Hole; Operating Temperature Max: 85°C; Operating Temperature Min: -40°C; Packaging: Ammo Pack; Height: 31.5mm; Diameter: 16mm; Capacitance: 3900uF; Rated Voltage (DC): 25V
footprint WCAP-ATG8_D16H31.5
simulation model 860010480024_3.9mF
pins: 1 P, 2 N
text: +

## 860010480025
designator C?, comment 4700uF  (value not drawn)
WCAP-ATG8 Aluminum Electrolytic Capacitor, Radial, THT, D16 x H31.5mm, 4700uF, 25V; Manufacturer Part Number: 860010480025; Manufacturer: Wurth Elektronik; Capacitance Tolerance: +/-20%; Dissipation Factor: 14%; Endurance: 2000h; Leakage Current: 1175uA; Ripple Current: 2640mA; Technical Reference: ATBK315472M025DSPADB000; Category: Aluminum Electrolytic Capacitors; Match Code: WCAP-ATG8; ComponentLink1Description: Website Link; ComponentLink1URL: https://www.we-online.com/redexpert/article/860010480025?ad; ComponentLink2Description: Datasheet Link; ComponentLink2URL: https://www.we-online.com/redexpert/spec/860010480025?ad; Mount: Through Hole; Operating Temperature Max: 85°C; Operating Temperature Min: -40°C; Packaging: Ammo Pack; Height: 31.5mm; Diameter: 16mm; Capacitance: 4700uF; Rated Voltage (DC): 25V
footprint WCAP-ATG8_D16H31.5
simulation model 860010480025_4.7mF
pins: 1 P, 2 N
text: +

## 860010481026
designator C?, comment 5600uF  (value not drawn)
WCAP-ATG8 Aluminum Electrolytic Capacitor, Radial, THT, D18 x H31.5mm, 5600uF, 25V; Manufacturer Part Number: 860010481026; Manufacturer: Wurth Elektronik; Capacitance Tolerance: +/-20%; Dissipation Factor: 14%; Endurance: 2000h; Leakage Current: 1400uA; Ripple Current: 2816mA; Technical Reference: ATBL315562M025DSPAEB000; Category: Aluminum Electrolytic Capacitors; Match Code: WCAP-ATG8; ComponentLink1Description: Website Link; ComponentLink1URL: https://www.we-online.com/redexpert/article/860010481026?ad; ComponentLink2Description: Datasheet Link; ComponentLink2URL: https://www.we-online.com/redexpert/spec/860010481026?ad; Mount: Through Hole; Operating Temperature Max: 85°C; Operating Temperature Min: -40°C; Packaging: Ammo Pack; Height: 31.5mm; Diameter: 18mm; Capacitance: 5600uF; Rated Voltage (DC): 25V
footprint WCAP-ATG8_D18H31.5
simulation model 860010481026_5.6mF
pins: 1 P, 2 N
text: +

## 860010481027
designator C?, comment 6800uF  (value not drawn)
WCAP-ATG8 Aluminum Electrolytic Capacitor, Radial, THT, D18 x H35.5mm, 6800uF, 25V; Manufacturer Part Number: 860010481027; Manufacturer: Wurth Elektronik; Capacitance Tolerance: +/-20%; Dissipation Factor: 14%; Endurance: 2000h; Leakage Current: 1700uA; Ripple Current: 2970mA; Technical Reference: ATBL355682M025DSPAEB000; Category: Aluminum Electrolytic Capacitors; Match Code: WCAP-ATG8; ComponentLink1Description: Website Link; ComponentLink1URL: https://www.we-online.com/redexpert/article/860010481027?ad; ComponentLink2Description: Datasheet Link; ComponentLink2URL: https://www.we-online.com/redexpert/spec/860010481027?ad; Mount: Through Hole; Operating Temperature Max: 85°C; Operating Temperature Min: -40°C; Packaging: Ammo Pack; Height: 35.5mm; Diameter: 18mm; Capacitance: 6800uF; Rated Voltage (DC): 25V
footprint WCAP-ATG8_D18H35.5
simulation model 860010481027_6.8mF
pins: 1 P, 2 N
text: +

## 860010481028
designator C?, comment 8200uF  (value not drawn)
WCAP-ATG8 Aluminum Electrolytic Capacitor, Radial, THT, D18 x H35.5mm, 8200uF, 25V; Manufacturer Part Number: 860010481028; Manufacturer: Wurth Elektronik; Capacitance Tolerance: +/-20%; Dissipation Factor: 14%; Endurance: 2000h; Leakage Current: 2050uA; Ripple Current: 2981mA; Technical Reference: ATBL355822M025DSPAEB000; Category: Aluminum Electrolytic Capacitors; Match Code: WCAP-ATG8; ComponentLink1Description: Website Link; ComponentLink1URL: https://www.we-online.com/redexpert/article/860010481028?ad; ComponentLink2Description: Datasheet Link; ComponentLink2URL: https://www.we-online.com/redexpert/spec/860010481028?ad; Mount: Through Hole; Operating Temperature Max: 85°C; Operating Temperature Min: -40°C; Packaging: Ammo Pack; Height: 35.5mm; Diameter: 18mm; Capacitance: 8200uF; Rated Voltage (DC): 25V
footprint WCAP-ATG8_D18H35.5
simulation model 860010481028_8.2mF
pins: 1 P, 2 N
text: +

## 860010483029
designator C?, comment 10000uF  (value not drawn)
WCAP-ATG8 Aluminum Electrolytic Capacitor, Radial, THT, D22 x H41mm, 10000uF, 25V; Manufacturer Part Number: 860010483029; Manufacturer: Wurth Elektronik; Capacitance Tolerance: +/-20%; Dissipation Factor: 14%; Endurance: 2000h; Leakage Current: 2500uA; Ripple Current: 3960mA; Technical Reference: ATBN410103M025DSPS2B000; Category: Aluminum Electrolytic Capacitors; Match Code: WCAP-ATG8; ComponentLink1Description: Website Link; ComponentLink1URL: https://www.we-online.com/redexpert/article/860010483029?ad; ComponentLink2Description: Datasheet Link; ComponentLink2URL: https://www.we-online.com/redexpert/spec/860010483029?ad; Mount: Through Hole; Operating Temperature Max: 85°C; Operating Temperature Min: -40°C; Packaging: Ammo Pack; Height: 41mm; Diameter: 22mm; Capacitance: 10000uF; Rated Voltage (DC): 25V
footprint WCAP-ATG8_D22H41
simulation model 860010483029_10mF
pins: 1 P, 2 N
text: +

## 860010572001
designator C?, comment 4.7uF  (value not drawn)
WCAP-ATG8 Aluminum Electrolytic Capacitor, Radial, THT, D5 x H11mm, 4.7uF, 35V; Manufacturer Part Number: 860010572001; Manufacturer: Wurth Elektronik; Capacitance Tolerance: +/-20%; Dissipation Factor: 12%; Endurance: 2000h; Leakage Current: 3uA; Ripple Current: 44mA; Technical Reference: ATBC1104R7M035DSPA3B000; Category: Aluminum Electrolytic Capacitors; Match Code: WCAP-ATG8; ComponentLink1Description: Website Link; ComponentLink1URL: https://www.we-online.com/redexpert/article/860010572001?ad; ComponentLink2Description: Datasheet Link; ComponentLink2URL: https://www.we-online.com/redexpert/spec/860010572001?ad; Mount: Through Hole; Operating Temperature Max: 85°C; Operating Temperature Min: -40°C; Packaging: Ammo Pack; Height: 11mm; Diameter: 5mm; Capacitance: 4.7uF; Rated Voltage (DC): 35V
footprint WCAP-ATG8_D5H11
simulation model 860010572001_4.7uF
pins: 1 P, 2 N
text: +

## 860010572002
designator C?, comment 10uF  (value not drawn)
WCAP-ATG8 Aluminum Electrolytic Capacitor, Radial, THT, D5 x H11mm, 10uF, 35V; Manufacturer Part Number: 860010572002; Manufacturer: Wurth Elektronik; Capacitance Tolerance: +/-20%; Dissipation Factor: 12%; Endurance: 2000h; Leakage Current: 3.5uA; Ripple Current: 66mA; Technical Reference: ATBC110100M035DSPA3B000; Category: Aluminum Electrolytic Capacitors; Match Code: WCAP-ATG8; ComponentLink1Description: Website Link; ComponentLink1URL: https://www.we-online.com/redexpert/article/860010572002?ad; ComponentLink2Description: Datasheet Link; ComponentLink2URL: https://www.we-online.com/redexpert/spec/860010572002?ad; Mount: Through Hole; Operating Temperature Max: 85°C; Operating Temperature Min: -40°C; Packaging: Ammo Pack; Height: 11mm; Diameter: 5mm; Capacitance: 10uF; Rated Voltage (DC): 35V
footprint WCAP-ATG8_D5H11
simulation model 860010572002_10uF
pins: 1 P, 2 N
text: +

## 860010572003
designator C?, comment 22uF  (value not drawn)
WCAP-ATG8 Aluminum Electrolytic Capacitor, Radial, THT, D5 x H11mm, 22uF, 35V; Manufacturer Part Number: 860010572003; Manufacturer: Wurth Elektronik; Capacitance Tolerance: +/-20%; Dissipation Factor: 12%; Endurance: 2000h; Leakage Current: 7.7uA; Ripple Current: 108mA; Technical Reference: ATBC110220M035DSPA3B000; Category: Aluminum Electrolytic Capacitors; Match Code: WCAP-ATG8; ComponentLink1Description: Website Link; ComponentLink1URL: https://www.we-online.com/redexpert/article/860010572003?ad; ComponentLink2Description: Datasheet Link; ComponentLink2URL: https://www.we-online.com/redexpert/spec/860010572003?ad; Mount: Through Hole; Operating Temperature Max: 85°C; Operating Temperature Min: -40°C; Packaging: Ammo Pack; Height: 11mm; Diameter: 5mm; Capacitance: 22uF; Rated Voltage (DC): 35V
footprint WCAP-ATG8_D5H11
simulation model 860010572003_22uF
pins: 1 P, 2 N
text: +

## 860010572004
designator C?, comment 33uF  (value not drawn)
WCAP-ATG8 Aluminum Electrolytic Capacitor, Radial, THT, D5 x H11mm, 33uF, 35V; Manufacturer Part Number: 860010572004; Manufacturer: Wurth Elektronik; Capacitance Tolerance: +/-20%; Dissipation Factor: 12%; Endurance: 2000h; Leakage Current: 11.55uA; Ripple Current: 121mA; Technical Reference: ATBC110330M035DSPA3B000; Category: Aluminum Electrolytic Capacitors; Match Code: WCAP-ATG8; ComponentLink1Description: Website Link; ComponentLink1URL: https://www.we-online.com/redexpert/article/860010572004?ad; ComponentLink2Description: Datasheet Link; ComponentLink2URL: https://www.we-online.com/redexpert/spec/860010572004?ad; Mount: Through Hole; Operating Temperature Max: 85°C; Operating Temperature Min: -40°C; Packaging: Ammo Pack; Height: 11mm; Diameter: 5mm; Capacitance: 33uF; Rated Voltage (DC): 35V
footprint WCAP-ATG8_D5H11
simulation model 860010572004_33uF
pins: 1 P, 2 N
text: +

## 860010572005
designator C?, comment 47uF  (value not drawn)
WCAP-ATG8 Aluminum Electrolytic Capacitor, Radial, THT, D5 x H11mm, 47uF, 35V; Manufacturer Part Number: 860010572005; Manufacturer: Wurth Elektronik; Capacitance Tolerance: +/-20%; Dissipation Factor: 12%; Endurance: 2000h; Leakage Current: 16.45uA; Ripple Current: 143mA; Technical Reference: ATBC110470M035DSPA3B000; Category: Aluminum Electrolytic Capacitors; Match Code: WCAP-ATG8; ComponentLink1Description: Website Link; ComponentLink1URL: https://www.we-online.com/redexpert/article/860010572005?ad; ComponentLink2Description: Datasheet Link; ComponentLink2URL: https://www.we-online.com/redexpert/spec/860010572005?ad; Mount: Through Hole; Operating Temperature Max: 85°C; Operating Temperature Min: -40°C; Packaging: Ammo Pack; Height: 11mm; Diameter: 5mm; Capacitance: 47uF; Rated Voltage (DC): 35V
footprint WCAP-ATG8_D5H11
simulation model 860010572005_47uF
pins: 1 P, 2 N
text: +

## 860010573006
designator C?, comment 68uF  (value not drawn)
WCAP-ATG8 Aluminum Electrolytic Capacitor, Radial, THT, D6.3 x H11mm, 68uF, 35V; Manufacturer Part Number: 860010573006; Manufacturer: Wurth Elektronik; Capacitance Tolerance: +/-20%; Dissipation Factor: 12%; Endurance: 2000h; Leakage Current: 23.8uA; Ripple Current: 198mA; Technical Reference: ATBD110680M035DSPA4B000; Category: Aluminum Electrolytic Capacitors; Match Code: WCAP-ATG8; ComponentLink1Description: Website Link; ComponentLink1URL: https://www.we-online.com/redexpert/article/860010573006?ad; ComponentLink2Description: Datasheet Link; ComponentLink2URL: https://www.we-online.com/redexpert/spec/860010573006?ad; Mount: Through Hole; Operating Temperature Max: 85°C; Operating Temperature Min: -40°C; Packaging: Ammo Pack; Height: 11mm; Diameter: 6.3mm; Capacitance: 68uF; Rated Voltage (DC): 35V
footprint WCAP-ATG8_D6.3H11
simulation model 860010573006_68uF
pins: 1 P, 2 N
text: +

## 860010573007
designator C?, comment 100uF  (value not drawn)
WCAP-ATG8 Aluminum Electrolytic Capacitor, Radial, THT, D6.3 x H11mm, 100uF, 35V; Manufacturer Part Number: 860010573007; Manufacturer: Wurth Elektronik; Capacitance Tolerance: +/-20%; Dissipation Factor: 12%; Endurance: 2000h; Leakage Current: 35uA; Ripple Current: 231mA; Technical Reference: ATBD110101M035DSPA4B000; Category: Aluminum Electrolytic Capacitors; Match Code: WCAP-ATG8; ComponentLink1Description: Website Link; ComponentLink1URL: https://www.we-online.com/redexpert/article/860010573007?ad; ComponentLink2Description: Datasheet Link; ComponentLink2URL: https://www.we-online.com/redexpert/spec/860010573007?ad; Mount: Through Hole; Operating Temperature Max: 85°C; Operating Temperature Min: -40°C; Packaging: Ammo Pack; Height: 11mm; Diameter: 6.3mm; Capacitance: 100uF; Rated Voltage (DC): 35V
footprint WCAP-ATG8_D6.3H11
simulation model 860010573007_100uF
pins: 1 P, 2 N
text: +

## 860010574008
designator C?, comment 120uF  (value not drawn)
WCAP-ATG8 Aluminum Electrolytic Capacitor, Radial, THT, D8 x H11.5mm, 120uF, 35V; Manufacturer Part Number: 860010574008; Manufacturer: Wurth Elektronik; Capacitance Tolerance: +/-20%; Dissipation Factor: 12%; Endurance: 2000h; Leakage Current: 42uA; Ripple Current: 275mA; Technical Reference: ATBE115121M035DSPA7B000; Category: Aluminum Electrolytic Capacitors; Match Code: WCAP-ATG8; ComponentLink1Description: Website Link; ComponentLink1URL: https://www.we-online.com/redexpert/article/860010574008?ad; ComponentLink2Description: Datasheet Link; ComponentLink2URL: https://www.we-online.com/redexpert/spec/860010574008?ad; Mount: Through Hole; Operating Temperature Max: 85°C; Operating Temperature Min: -40°C; Packaging: Ammo Pack; Height: 11.5mm; Diameter: 8mm; Capacitance: 120uF; Rated Voltage (DC): 35V
footprint WCAP-ATG8_D8H11.5
simulation model 860010574008_120uF
pins: 1 P, 2 N
text: +

## 860010574009
designator C?, comment 150uF  (value not drawn)
WCAP-ATG8 Aluminum Electrolytic Capacitor, Radial, THT, D8 x H11.5mm, 150uF, 35V; Manufacturer Part Number: 860010574009; Manufacturer: Wurth Elektronik; Capacitance Tolerance: +/-20%; Dissipation Factor: 12%; Endurance: 2000h; Leakage Current: 52.5uA; Ripple Current: 308mA; Technical Reference: ATBE115151M035DSPA7B000; Category: Aluminum Electrolytic Capacitors; Match Code: WCAP-ATG8; ComponentLink1Description: Website Link; ComponentLink1URL: https://www.we-online.com/redexpert/article/860010574009?ad; ComponentLink2Description: Datasheet Link; ComponentLink2URL: https://www.we-online.com/redexpert/spec/860010574009?ad; Mount: Through Hole; Operating Temperature Max: 85°C; Operating Temperature Min: -40°C; Packaging: Ammo Pack; Height: 11.5mm; Diameter: 8mm; Capacitance: 150uF; Rated Voltage (DC): 35V
footprint WCAP-ATG8_D8H11.5
simulation model 860010574009_150uF
pins: 1 P, 2 N
text: +

## 860010574010
designator C?, comment 180uF  (value not drawn)
WCAP-ATG8 Aluminum Electrolytic Capacitor, Radial, THT, D8 x H11.5mm, 180uF, 35V; Manufacturer Part Number: 860010574010; Manufacturer: Wurth Elektronik; Capacitance Tolerance: +/-20%; Dissipation Factor: 12%; Endurance: 2000h; Leakage Current: 63uA; Ripple Current: 352mA; Technical Reference: ATBE115181M035DSPA7B000; Category: Aluminum Electrolytic Capacitors; Match Code: WCAP-ATG8; ComponentLink1Description: Website Link; ComponentLink1URL: https://www.we-online.com/redexpert/article/860010574010?ad; ComponentLink2Description: Datasheet Link; ComponentLink2URL: https://www.we-online.com/redexpert/spec/860010574010?ad; Mount: Through Hole; Operating Temperature Max: 85°C; Operating Temperature Min: -40°C; Packaging: Ammo Pack; Height: 11.5mm; Diameter: 8mm; Capacitance: 180uF; Rated Voltage (DC): 35V
footprint WCAP-ATG8_D8H11.5
simulation model 860010574010_180uF
pins: 1 P, 2 N
text: +